# Altium footprint library aroshaD.PcbLib: 57 footprints (part 4 of 4)
Each footprint in its own frame and in the unit in brackets; x right, y up, seen from the top. Pads: shape width x height; smd on the part's side, far side on the other; paste and mask are expansions set on the pad; w line width, h text height; cw(c..) or ccw(c..) is an arc to the next point about the centre after c.
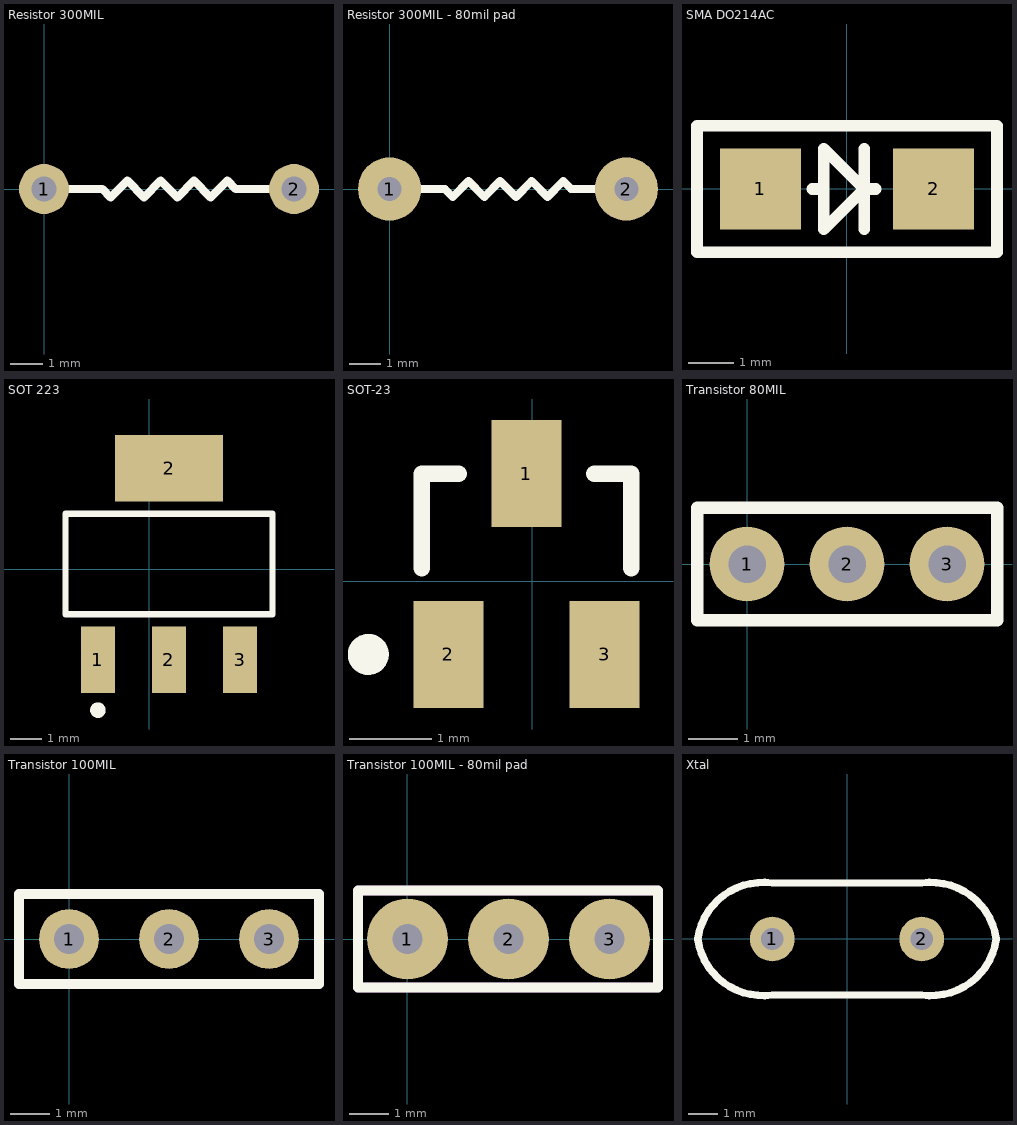
[diagram p3: the footprints below, top view; thin cyan lines are the x and y axes]

## Resistor 300MIL [mil]
pads (2):
  round 60 hole 30: 1(0,0) 2(300,0)
Top Overlay:
  lines w10: 30,0 70,0 80,-10 100,10 120,-10 140,10 160,-10 180,10 200,-10 220,10 230,0 270,0

## Resistor 300MIL - 80mil pad [mil]
pads (2):
  round 80 hole 30: 1(0,0) 2(300,0)
Top Overlay:
  lines w10: 40,0 70,0 80,-10 100,10 120,-10 140,10 160,-10 180,10 200,-10 220,10 230,0 260,0

## SMA DO214AC [mil]
pads (2):
  rect 70x70 smd: 1(-75,0) 2(75,0)
Top Overlay:
  lines w10: -30,0 -20,0 ; 15,-35 15,0 ; 15,35 15,0 ; 25,0 15,0 ; 15,0 -20,35 -20,-35 15,0 ; -130,-55 -130,0 -130,55 130,55 130,-55 -130,-55

## SOT 223 [mm] "Compatible with AMC1117"
height 1.65
pads (4):
  rect 1.1x2.15 smd: 1(-1.66,-2.938) 2(0.64,-2.938) 3(2.94,-2.938)
  rect 3.5x2.15 smd: 2(0.64,3.262)
Top Overlay:
  circle w0.25: c-1.66,-4.563 r0.125
  lines w0.2: -2.71,-1.463 3.99,-1.463 3.99,1.787 -2.71,1.787 -2.71,-1.463
3D body "SOT-223.STEP": height 1.65, standoff -0.02, extent -2.615,-3.339 3.885,3.593

## SOT-23 [mm]
pads (3):
  rect 0.85x1.3 smd: 1(-0.071,1.309) 2(-1.021,-0.891) 3(0.879,-0.891)
Top Overlay:
  circle w0.25: c-1.996,-0.891 r0.125
  lines w0.2: -1.346,0.159 -1.346,1.309 -0.896,1.309 ; 0.754,1.309 1.204,1.309 1.204,0.159

## Transistor 80MIL [mil]
pads (3):
  round 60 hole 30: 1(0,0) 2(80,0) 3(160,0)
Top Overlay:
  lines w10: -40,-45 -40,45 200,45 200,-45 -40,-45

## Transistor 100MIL [mil]
pads (3):
  round 60 hole 30: 1(0,0) 2(100,0) 3(200,0)
Top Overlay:
  lines w10: -50,-45 -50,45 250,45 250,-45 -50,-45
Mechanical 1:
  lines w10: -50,-45 250,-45 250,45 -50,45 -50,-45

## Transistor 100MIL - 80mil pad [mil]
pads (3):
  round 80 hole 30: 1(0,0) 2(100,0) 3(200,0)
Top Overlay:
  lines w10: -49,-48 248,-48 248,48 -49,48 -49,-48
Mechanical 1:
  lines w10: -49,-48 -49,48 248,48 248,-48 -49,-48

## Xtal [mil]
pads (2):
  round 60 hole 30: 1(-100,0) 2(100,0)
Top Overlay:
  lines w10: -100,75 ccw(c-112.5,-12.5) -200,0 ccw(c-112.5,12.5) -100,-75 100,-75 ccw(c112.5,12.5) 200,0 ccw(c112.5,-12.5) 100,75 -100,75 ; -100,75 -100,75